# EAGLE library part BTS7960B (library BTS7960B)
Path resistance of typ. 16 m @ 25 C Source: Datasheet
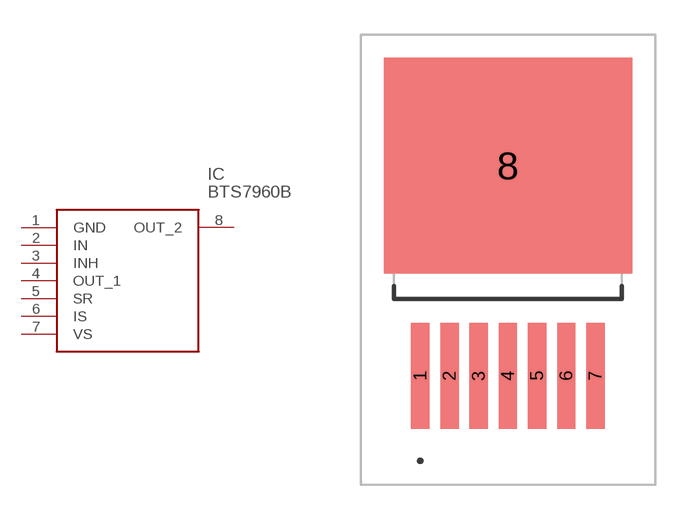
[diagram p0: symbol with the pads of BTS7960B; footprint BTS7960B]

Designator prefix IC

## BTS7960B (Description: Path resistance of typ. 16 m @ 25 C; Height: 4.4mm; Manufacturer_Name: Rochester Electronics; Manufacturer_Part_Number: BTS7960B)  [BTS7960B]
1  GND
2  IN
3  INH
4  OUT_1
5  SR
6  IS
7  VS
8  OUT_2

## Footprint BTS7960B (pad centres in mm)
BTS7960B-1
smd 0.8 x 4.6: 1 -3.81,-9.15; 2 -2.54,-9.15; 3 -1.27,-9.15; 4 0,-9.15; 5 1.27,-9.15; 6 2.54,-9.15; 7 3.81,-9.15
smd 10.8 x 9.4: 8 0,0